# Altium schematic symbol library OPA1612.Schlib: 1 symbol
Pins are listed as number, name and electrical type; pins without a type are passive.

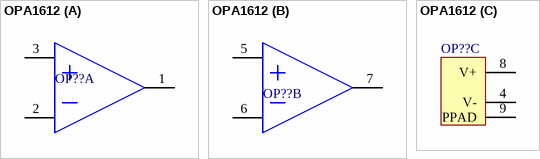
[diagram p0: symbol OPA1612]

## OPA1612
designator OP??
part A pins: 1 OUTA, 2 -INA, 3 +INA
part B pins: 5 +INB, 6 -INB, 7 OUTB
part C pins: 4 V-, 8 V+, 9 PPAD